# Altium schematic symbol library MCP1725-SO8.SchLib: 1 symbol
Pins are listed as number, name and electrical type; pins without a type are passive.

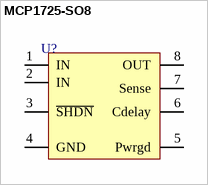
[diagram p0: symbol MCP1725-SO8]

## MCP1725-SO8
designator U?  (value not drawn)
pins: 1 IN, 2 IN, 3 ~{SHDN}, 4 GND, 5 Pwrgd, 6 Cdelay, 7 Sense, 8 OUT